# Altium schematic symbol library CON1X5.Schlib: 1 symbol
Pins are listed as number, name and electrical type; pins without a type are passive.

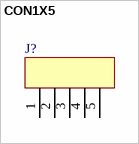
[diagram p0: symbol CON1X5]

## CON1X5
designator J?
pins: 1, 2, 3, 4, 5